# Altium footprint library myLib.PcbLib: 111 footprints (part 5 of 7)
Each footprint in its own frame and in the unit in brackets; x right, y up, seen from the top. Pads: shape width x height; smd on the part's side, far side on the other; paste and mask are expansions set on the pad; w line width, h text height; cw(c..) or ccw(c..) is an arc to the next point about the centre after c.
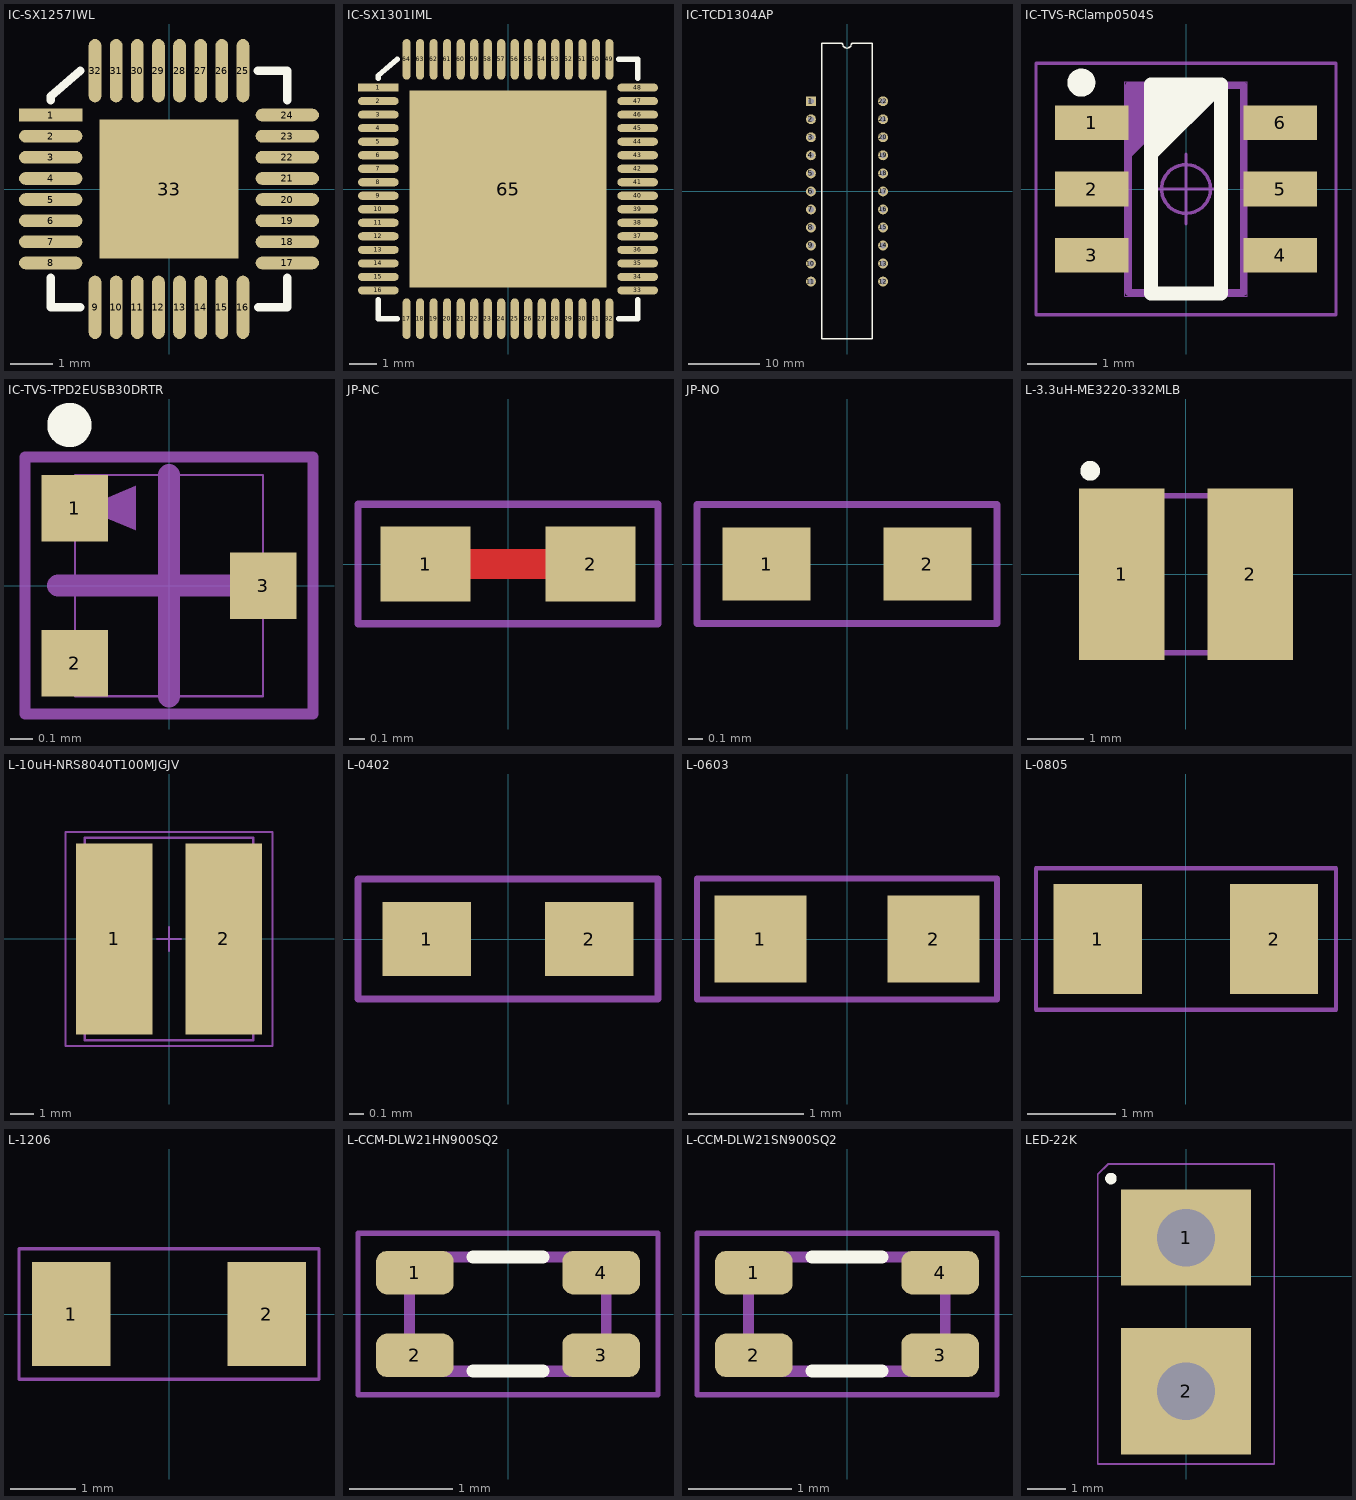
[diagram p4: the footprints below, top view; thin cyan lines are the x and y axes]

## IC-SX1257IWL [mm] "Semtech LoRa Transceiver (SX1257)"
pads (33):
  rect 1.5x0.3 smd: 1(-2.8,1.75)
  oval 1.5x0.3 smd: 2(-2.8,1.25) 3(-2.8,0.75) 4(-2.8,0.25) 5(-2.8,-0.25) 6(-2.8,-0.75) 7(-2.8,-1.25) 8(-2.8,-1.75) 17(2.8,-1.75) 18(2.8,-1.25) 19(2.8,-0.75) 20(2.8,-0.25) 21(2.8,0.25) 22(2.8,0.75) 23(2.8,1.25) 24(2.8,1.75)
  oval 0.3x1.5 smd: 9(-1.75,-2.8) 10(-1.25,-2.8) 11(-0.75,-2.8) 12(-0.25,-2.8) 13(0.25,-2.8) 14(0.75,-2.8) 15(1.25,-2.8) 16(1.75,-2.8) 25(1.75,2.8) 26(1.25,2.8) 27(0.75,2.8) 28(0.25,2.8) 29(-0.25,2.8) 30(-0.75,2.8) 31(-1.25,2.8) 32(-1.75,2.8)
  rect 3.3x3.3 smd: 33(0,0)
Top Overlay:
  lines w0.2: -2.8,-2.1 -2.8,-2.8 -2.1,-2.8 ; -2.8,2.1 -2.8,2.2 -2.1,2.8 ; 2.1,2.8 2.8,2.8 2.8,2.1 ; 2.114,-2.8 2.8,-2.8 2.8,-2.1

## IC-SX1301IML [mm] "Semtech LoRa Concentrator IC (SX1301)"
pads (65):
  rect 1.5x0.3 smd: 1(-4.8,3.75)
  oval 1.5x0.3 smd: 2(-4.8,3.25) 3(-4.8,2.75) 4(-4.8,2.25) 5(-4.8,1.75) 6(-4.8,1.25) 7(-4.8,0.75) 8(-4.8,0.25) 9(-4.8,-0.25) 10(-4.8,-0.75) 11(-4.8,-1.25) 12(-4.8,-1.75) 13(-4.8,-2.25) 14(-4.8,-2.75) 15(-4.8,-3.25) 16(-4.8,-3.75) 33(4.8,-3.75) 34(4.8,-3.25) 35(4.8,-2.75) 36(4.8,-2.25) 37(4.8,-1.75) 38(4.8,-1.25) 39(4.8,-0.75) 40(4.8,-0.25) 41(4.8,0.25) 42(4.8,0.75) 43(4.8,1.25) 44(4.8,1.75) 45(4.8,2.25) 46(4.8,2.75) 47(4.8,3.25) 48(4.8,3.75)
  oval 0.3x1.5 smd: 17(-3.75,-4.8) 18(-3.25,-4.8) 19(-2.75,-4.8) 20(-2.25,-4.8) 21(-1.75,-4.8) 22(-1.25,-4.8) 23(-0.75,-4.8) 24(-0.25,-4.8) 25(0.25,-4.8) 26(0.75,-4.8) 27(1.25,-4.8) 28(1.75,-4.8) 29(2.25,-4.8) 30(2.75,-4.8) 31(3.25,-4.8) 32(3.75,-4.8) 49(3.75,4.8) 50(3.25,4.8) 51(2.75,4.8) 52(2.25,4.8) 53(1.75,4.8) 54(1.25,4.8) 55(0.75,4.8) 56(0.25,4.8) 57(-0.25,4.8) 58(-0.75,4.8) 59(-1.25,4.8) 60(-1.75,4.8) 61(-2.25,4.8) 62(-2.75,4.8) 63(-3.25,4.8) 64(-3.75,4.8)
  rect 7.3x7.3 smd: 65(0,0)
Top Overlay:
  lines w0.2: -4.8,-4.1 -4.8,-4.8 -4.1,-4.8 ; -4.8,4.1 -4.8,4.2 ; -4.792,4.2 -4.8,4.2 ; -4.1,4.8 -4.8,4.2 ; 4.1,-4.8 4.8,-4.8 4.8,-4.1 ; 4.1,4.8 4.8,4.8 4.8,4.1

## IC-TCD1304AP [mil] "Linear CCD (TCD1304AP)"
pads (22):
  rect 55x55 hole 32: 1(-200,500)
  round 55 hole 32: 2(-200,400) 3(-200,300) 4(-200,200) 5(-200,100) 6(-200,0) 7(-200,-100) 8(-200,-200) 9(-200,-300) 10(-200,-400) 11(-200,-500) 12(200,-500) 13(200,-400) 14(200,-300) 15(200,-200) 16(200,-100) 17(200,0) 18(200,100) 19(200,200) 20(200,300) 21(200,400) 22(200,500)
Top Overlay:
  lines w7.87: -25,820 ccw(c0,820) 25,820 ; -25,820.08 -139.63,820.08 -139.63,-818.5 139.63,-818.5 139.63,820.08 25,820.08

## IC-TVS-RClamp0504S [mm] "TVS Array Low Capacitance (RClamp0504S)"
height 1.45
pads (6):
  rect 1.05x0.5 smd: 1(-1.35,0.95) 2(-1.35,0) 3(-1.35,-0.95) 4(1.35,-0.95) 5(1.35,0) 6(1.35,0.95)
Top Overlay:
  circle w0.2: c-1.5,1.525 r0.1
  lines w0.2: -0.5,0.5 0.5,1.5 ; -0.5,0.7 0.3,1.5 ; -0.5,0.9 0.1,1.5 ; -0.5,1.1 -0.1,1.5 ; -0.5,1.3 -0.3,1.5 ; 0.5,1.5 -0.5,1.5 -0.5,-1.5 0.5,-1.5 0.5,1.5
Drawing:
  circle w0.05: c0,0 r0.35
  lines w0.05: -0.5,0 0.5,0 ; 0,-0.5 0,0.5 ; -2.15,-1.8 -2.15,1.8 2.15,1.8 2.15,-1.8 -2.15,-1.8
3D:
  lines w0.001: -0.875,-1.535 -0.875,1.535 0.875,1.535 0.875,-1.535 -0.875,-1.535
Mechanical:
  lines w0.1: -0.825,0.485 0.175,1.485 ; -0.825,0.585 0.075,1.485 ; -0.825,0.685 -0.025,1.485 ; -0.825,0.785 -0.125,1.485 ; -0.825,0.885 -0.225,1.485 ; -0.825,0.985 -0.325,1.485 ; -0.825,1.085 -0.425,1.485 ; -0.825,1.185 -0.525,1.485 ; -0.825,1.285 -0.625,1.485 ; -0.825,1.385 -0.725,1.485 ; -0.825,-1.485 -0.825,1.485 0.825,1.485 0.825,-1.485 -0.825,-1.485
3D body: height 1.45, standoff 0, extent -0.875,-1.535 0.875,1.535

## IC-TVS-TPD2EUSB30DRTR [mm] "2 CHANNEL PROTECTION SOLUTION FOR SUPER-SPEED (TPD2EUSB30DRTR)"
height 0.5
pads (3):
  rect 0.3x0.3 smd: 1(-0.425,0.35) 2(-0.425,-0.35) 3(0.425,0)
Top Overlay:
  circle w0.1: c-0.45,0.725 r0.05
Drawing:
  lines w0.05: -0.65,-0.58 0.65,-0.58 0.65,0.58 -0.65,0.58 -0.65,-0.58
3D:
  lines w0.01: -0.425,-0.5 -0.425,0.5 0.425,0.5 0.425,-0.5 -0.425,-0.5
Mechanical:
  region: -0.39,0.35 -0.15,0.45 -0.15,0.25
  lines w0.1: -0.5,0 0.5,0 ; 0,-0.5 0,0.5
3D body: height 0.5, standoff 0, extent -0.425,-0.5 0.425,0.5

## JP-NC [mm] "Solder Bridge Normally Connected"
pads (2):
  rect 0.6x0.5 smd: 1(-0.55,0) 2(0.55,0)
Top Layer:
  lines w0.2: -0.55,0 0.55,0
Top Solder:
  rectangle: -0.225,-0.35 0.225,0.35
Drawing:
  lines w0.05: -0.55,0 0.55,0 ; -1,-0.4 1,-0.4 1,0.4 -1,0.4 -1,-0.4

## JP-NO [mm] "Solder Bridge Normally Open"
pads (2):
  rect 0.6x0.5 smd: 1(-0.55,0) 2(0.55,0)
Top Solder:
  rectangle: -0.25,-0.35 0.25,0.35
Drawing:
  lines w0.05: -1.025,-0.406 1.025,-0.406 1.025,0.406 -1.025,0.406 -1.025,-0.406

## L-3.3uH-ME3220-332MLB [mm] "Fixed Inductors, ME3220, SMT Power, 3.3 uH, 20%, 1.6 A"
pads (2):
  rect 1.52x3.05 smd: 1(-1.145,0) 2(1.145,0)
Top Overlay:
  circle w0.254: c-1.706,1.841 r0.048
Drawing:
  lines w0.1: -1.6,-1.4 -1.6,1.4 1.6,1.4 1.6,-1.4 -1.6,-1.4

## L-10uH-NRS8040T100MJGJV [mm] "Precision Wire Wound Inductor, 2-Leads (NRS8040T100MJGJV)"
height 4
pads (2):
  rect 3.3x8.2 smd: 1(-2.35,0) 2(2.35,0)
Drawing:
  lines w0.1: -3.625,-4.35 -3.625,4.35 3.625,4.35 3.625,-4.35 -3.625,-4.35
Mechanical:
  lines w0.1: -0.5,0 0.5,0 ; 0,-0.5 0,0.5 ; -4.45,-4.6 -4.45,4.6 4.45,4.6 4.45,-4.6 -4.45,-4.6
3D body: height 4, standoff 0, extent -3.625,-4.35 3.625,4.35

## L-0402 [mm] "Inductor, Generic, 0402"
pads (2):
  rect 0.6x0.5 smd: 1(-0.55,0) 2(0.55,0)
Drawing:
  lines w0.05: -1.016,-0.406 1.016,-0.406 1.016,0.406 -1.016,0.406 -1.016,-0.406

## L-0603 [mm] "Inductor, Generic, 0603"
pads (2):
  rect 0.8x0.75 smd: 1(-0.75,0) 2(0.75,0)
Drawing:
  lines w0.05: -1.3,-0.525 -1.3,0.525 1.3,0.525 1.3,-0.525 -1.3,-0.525

## L-0805 [mm] "Inductor, Generic, 0805"
pads (2):
  rect 1x1.25 smd: 1(-1,0) 2(1,0)
Drawing:
  lines w0.05: 1.7,-0.8 -1.7,-0.8 -1.7,0.8 1.702,0.8 1.702,-0.8

## L-1206 [mm] "Inductor, Generic, 1206"
pads (2):
  rect 1.2x1.6 smd: 1(-1.5,0) 2(1.5,0)
Drawing:
  lines w0.05: -2.3,-1 2.3,-1 2.3,1 -2.3,1 -2.3,-1

## L-CCM-DLW21HN900SQ2 [mm] "Common Mode Choke Murata (DLW21HN900SQ2)"
height 0.9
pads (4):
  rrect50% 0.75x0.42 smd: 1(-0.9,0.4) 2(-0.9,-0.4) 3(0.9,-0.4) 4(0.9,0.4)
Top Overlay:
  lines w0.127: -0.34,-0.55 0.34,-0.55 ; -0.34,0.55 0.34,0.55
Drawing:
  lines w0.05: -1.45,-0.78 1.45,-0.78 1.45,0.78 -1.45,0.78 -1.45,-0.78
3D:
  lines w0.001: -1,-0.6 1,-0.6 1,0.6 -1,0.6 -1,-0.6
Mechanical:
  lines w0.1: -0.95,-0.55 0.95,-0.55 0.95,0.55 -0.95,0.55 -0.95,-0.55
3D body: height 1.2, standoff 0, extent -1,-0.6 1,0.6

## L-CCM-DLW21SN900SQ2 [mm] "Common Mode Choke Murata (DLW21SN900SQ2)"
height 1.2
pads (4):
  rrect50% 0.75x0.42 smd: 1(-0.9,0.4) 2(-0.9,-0.4) 3(0.9,-0.4) 4(0.9,0.4)
Top Overlay:
  lines w0.127: -0.34,-0.55 0.34,-0.55 ; -0.34,0.55 0.34,0.55
Drawing:
  lines w0.05: -1.45,-0.78 1.45,-0.78 1.45,0.78 -1.45,0.78 -1.45,-0.78
3D:
  lines w0.001: -1,-0.6 1,-0.6 1,0.6 -1,0.6 -1,-0.6
Mechanical:
  lines w0.1: -0.95,-0.55 0.95,-0.55 0.95,0.55 -0.95,0.55 -0.95,-0.55
3D body: height 1.2, standoff 0, extent -1,-0.6 1,0.6

## LED-22K [mm]
pads (2):
  rect 3.4x2.5 hole 1.5: 1(0,1)
  rect 3.4x3.3 hole 1.5: 2(0,-3)
Top Overlay:
  circle w0.2: c-1.956,2.54 r0.05
Drawing:
  lines w0.05: -2.3,-4.9 2.3,-4.9 2.3,2.921 -2.032,2.921 -2.3,2.653 -2.3,-4.9